# Altium integrated library Resistors-potenciometers.IntLib: 402 symbols (part 2 of 5)
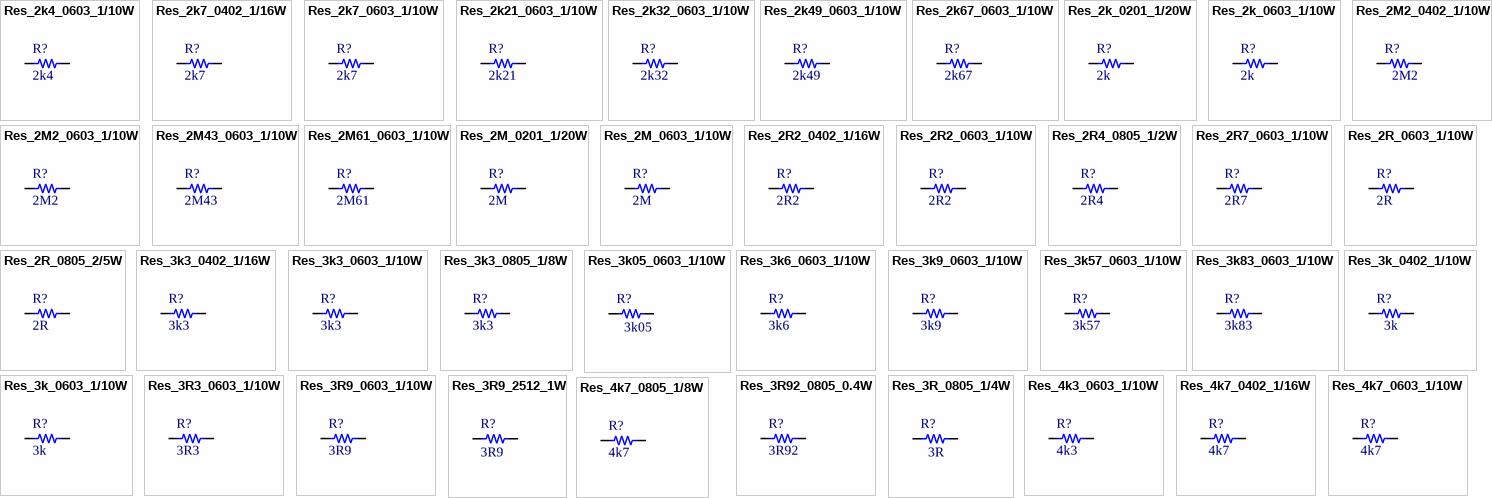
[diagram p11: symbols Res_2k4_0603_1/10W to Res_4k7_0805_1/8W]

## Res_2M2_0603_1/10W
designator R?, comment value 2M2  (hidden comment: 2M2 1/10W)
RES SMD 2.2M OHM 1% 1/10W 0603; Manufacturer Part Number: RC0603FR-072M2L; Manufacturer: Yageo; Reel Stock: N/A; Last modified by: J.Jaramillo; Last modified date: 20240310; ComponentLink1Description: Digi-Key; ComponentLink1URL: https://www.digikey.com/en/products/detail/yageo/RC0603FR-072M2L/5281189?s=N4IgTCBcDaIEoGEAMA2JBmAYnAtEg7GALJgAyIAugL5A; Supplier 1: Digi-Key; Supplier Part Number 1: YAG3329CT-ND
footprint 0603
pins: 1, 2

## Res_2M43_0603_1/10W
designator R?, comment value 2M43  (hidden comment: 2.43M 1/10W)
RES SMD 2.43M OHM 1% 1/10W 0603; Manufacturer Part Number: CRCW06032M43FKEA; Manufacturer: Vishay Dale; ComponentLink1URL: https://www.digikey.com/product-detail/en/vishay-dale/CRCW06032M43FKEA/541-2-43MHCT-ND/1180194; Reel Stock: N/A; Last modified by: J.Jaramillo; Last modified date: 20240310; ComponentLink1Description: Digi-key; Supplier 1: Digi-Key; Supplier Part Number 1: 541-2.43MHCT-ND
footprint 0603 (1608 Metric / 20190222 / N-A.Potosi)
pins: 1, 2

## Res_2M61_0603_1/10W
designator R?, comment value 2M61  (hidden comment: 2.61M 1/10W)
RES SMD 2.61M OHM 1% 1/10W 0603; Manufacturer Part Number: CRCW06032M61FKEA; Manufacturer: Vishay Dale; ComponentLink1URL: https://www.digikey.tw/products/en?keywords=541-2.61MHCT-ND; Reel Stock: N/A; Last modified by: J.Jaramillo; Last modified date: 20240310; ComponentLink1Description: Digi-key; Supplier 1: Digi-Key; Supplier Part Number 1: 541-2.61MHCT-ND
footprint 0603
pins: 1, 2

## Res_2M_0201_1/20W
designator R?, comment value 2M  (hidden comment: 2M 1/20W)
RES 2M OHM 5% 1/20W 0201; Manufacturer: Yageo; Manufacturer Part Number: RC0201JR-072ML; Supplier 1: Digi-Key; Supplier Part Number 1: YAG2885CT-ND; Reel Stock: N/A; Last modified by: J.Jaramillo; Last modified date: 20240310; ComponentLink1Description: Digi-Key; ComponentLink1URL: https://www.digikey.com/en/products/detail/yageo/RC0201JR-072ML/5280745?s=N4IgTCBcDaIJoEEDiYAcqCsBhAKgWgDkAREAXQF8g
footprint 0201 (20211214 / A-F.Romo)
pins: 1, 2

## Res_2M_0603_1/10W
designator R?, comment value 2M  (hidden comment: 2M 1/10W)
RES SMD 2M OHM 5% 1/10W 0603; Manufacturer: Yageo; Manufacturer Part Number: RC0603JR-072ML; Supplier 1: Digi-Key; Supplier Part Number 1: 311-2.0MGRCT-ND; Reel Stock: N/A; Last modified by: J.Jaramillo; Last modified date: 20240310; ComponentLink1Description: Digi-Key; ComponentLink1URL: https://www.digikey.com/product-detail/en/yageo/RC0603JR-072ML/311-2.0MGRCT-ND/729674
footprint 0603
pins: 1, 2

## Res_2R2_0402_1/16W
designator R?, comment value 2R2  (hidden comment: 2R2 1/16W)
RES 2.2 OHM 1% 1/16W 0402; Manufacturer Part Number: RMCF0402FT2R20; Manufacturer: Stackpole Electronics Inc; Reel Stock: N/A; Last modified by: J.Jaramillo; Last modified date: 20240310; Supplier 1: Digi-Key; Supplier Part Number 1: RMCF0402FT2R20CT-ND; ComponentLink1Description: Digi-Key; ComponentLink1URL: https://www.digikey.com/product-detail/en/stackpole-electronics-inc/RMCF0402FT2R20/RMCF0402FT2R20CT-ND/4376659
footprint 0402 (1005 Metric / 20190222 / N-A.Potosi)
footprint 0402_RF (1005 Metric / 20190222 / N-A.Potosi)
footprint 0402_RF2 (1005 Metric / 20190222 / N-A.Potosi)
pins: 1, 2

## Res_2R2_0603_1/10W
designator R?, comment value 2R2  (hidden comment: 2R2 1/10W)
RES SMD 2.2 OHM 1% 1/10W 0603; Manufacturer Part Number: RC0603FR-072R2L; Manufacturer: Yageo; ComponentLink1URL: https://www.digikey.com/en/products/detail/yageo/RC0603FR-072R2L/2827592?s=N4IgTCBcDaIEoGEAMA2JBmAYnAtEg7GHGADIgC6AvkA; Reel Stock: N/A; Last modified by: J.Jaramillo; Last modified date: 20240310; ComponentLink1Description: Digi-key; Supplier 1: Digi-Key; Supplier Part Number 1: 311-2.2HRCT-ND
footprint 0603
pins: 1, 2

## Res_2R4_0805_1/2W
designator R?, comment value 2R4  (hidden comment: 2R4 1/2W)
RES SMD 2.4 OHM 1% 1/2W 0805; Manufacturer: Panasonic Electronic Components; Manufacturer Part Number: ERJ-6DQF2R4V; Supplier 1: Digi-Key; Supplier Part Number 1: P19277CT-ND; Reel Stock: N/A; Last modified by: J.Jaramillo; Last modified date: 20240310; ComponentLink1Description: Digi-Key; ComponentLink1URL: https://www.digikey.com/product-detail/en/panasonic-electronic-components/ERJ-6DQF2R4V/P19277CT-ND/6004632
footprint 0805 (2012 metric/ 20190327 / V-A.Patino)
footprint 0805_M (2012 Metric / 20200129/ V-A.Patino)
pins: 1, 2

## Res_2R7_0603_1/10W
designator R?, comment value 2R7  (hidden comment: 2R7 1/10W)
RES 2.7 OHM 1% 1/10W 0603; Manufacturer Part Number: RMCF0603FT2R70; Manufacturer: Stackpole Electronics; ComponentLink1URL: https://www.digikey.com/en/products/detail/stackpole-electronics-inc/RMCF0603FT2R70/1713749?s=N4IgTCBcDaIEoFkDCAxADANjQZhQFTDgHY0QBdAXyA; Reel Stock: N/A; Last modified by: J.Jaramillo; Last modified date: 20240310; ComponentLink1Description: Digi-key; Supplier 1: Digi-Key; Supplier Part Number 1: RMCF0603FT2R70CT-ND
footprint 0603
pins: 1, 2

## Res_2R_0603_1/10W
designator R?, comment value 2R  (hidden comment: 2R 1/10W)
RES SMD 2 OHM 1% 1/10W 0603; Manufacturer Part Number: CRCW06032R00FKEA; Manufacturer: Vishay Dale; Reel Stock: N/A; Last modified by: J.Jaramillo; Last modified date: 20240310; Supplier Part Number 1: 541-2.00HHCT-ND; Supplier 1: Digi-Key; ComponentLink1Description: Digi-Key; ComponentLink1URL: https://www.digikey.com/product-detail/en/vishay-dale/CRCW06032R00FKEA/541-2.00HHCT-ND/1962029
footprint 0603 (1608 Metric / 20190222 / N-A.Potosi)
pins: 1, 2

## Res_2R_0805_2/5W
designator R?, comment value 2R  (hidden comment: 2R 2/5W)
RES SMD 2 OHM 1% 0.4W 0805; Manufacturer: Rohm Semiconductor; Manufacturer Part Number: ESR10EZPF2R00; Supplier 1: Digi-Key; Supplier Part Number 1: RHM2.00AECT-ND; Reel Stock: N/A; Last modified by: J.Jaramillo; Last modified date: 20240310; ComponentLink1Description: Digi-Key; ComponentLink1URL: https://www.digikey.com/product-detail/en/rohm-semiconductor/ESR10EZPF2R00/RHM2.00AECT-ND/1983841
footprint 0805 (2012 metric/ 20190327 / V-A.Patino)
footprint 0805_M (2012 Metric / 20200129/ V-A.Patino)
pins: 1, 2

## Res_3k3_0402_1/16W
designator R?, comment value 3k3  (hidden comment: 3k3 1/16W)
RES SMD 3.3K OHM 5% 1/16W 0402; Manufacturer: Yageo; Manufacturer Part Number: RC0402JR-073K3L; Supplier 1: Digi-Key; Supplier Part Number 1: 311-3.3KJRCT-ND; Reel Stock: N/A; Last modified by: J.Jaramillo; Last modified date: 20240310; ComponentLink1Description: Digi-Key; ComponentLink1URL: https://www.digikey.com/product-detail/en/yageo/RC0402JR-073K3L/311-3-3KJRCT-ND/729403
footprint 0402 (1005 Metric / 20190222 / N-A.Potosi)
footprint 0402_RF (1005 Metric / 20190222 / N-A.Potosi)
footprint 0402_RF2 (1005 Metric / 20190222 / N-A.Potosi)
pins: 1, 2

## Res_3k3_0603_1/10W
designator R?, comment value 3k3  (hidden comment: 3k3 1/10W)
RES SMD 3.3K OHM 1% 1/10W 0603; Manufacturer: Yageo; Manufacturer Part Number: RC0603FR-073K3L; Reel Stock: N/A; Last modified by: J.Jaramillo; Last modified date: 20240310; ComponentLink1Description: Digi-Key; ComponentLink1URL: https://www.digikey.com/en/products/detail/yageo/RC0603FR-073K3L/727126?s=N4IgTCBcDaIEoGEAMA2JBmAYnAtEg7OgNLoAyIAugL5A; Supplier 1: Digi-Key; Supplier Part Number 1: 311-3.30KHRCT-ND
footprint 0603
pins: 1, 2

## Res_3k3_0805_1/8W
designator R?, comment value 3k3  (hidden comment: 3k3 1/8W)
RES SMD 3.3K OHM 1% 1/8W 0805; Manufacturer: TE Connectivity Passive Product; Manufacturer Part Number: CRG0805F3K3; Supplier 1: Digi-Key; Supplier Part Number 1: A106062CT-ND; Reel Stock: N/A; Last modified by: J.Jaramillo; Last modified date: 20240310; ComponentLink1Description: Digi-Key; ComponentLink1URL: https://www.digikey.com/product-detail/en/te-connectivity-passive-product/CRG0805F3K3/A106062CT-ND/3477709
footprint 0805 (2012 metric/ 20190327 / V-A.Patino)
footprint 0805_M (2012 Metric / 20200129/ V-A.Patino)
pins: 1, 2

## Res_3k05_0603_1/10W
designator R?, comment value 3k05  (hidden comment: 3k05 1/10W)
RES 3.05K OHM 0.1% 1/10W 0603; Manufacturer: KOA Speer Electronics, Inc.; Manufacturer Part Number: RN73H1JTTD3051B25; Supplier 1: Digi-Key; Supplier Part Number 1: 2019-RN73H1JTTD3051B25CT-ND; Reel Stock: N/A; Last modified by: J.Jaramillo; Last modified date: 20240310; ComponentLink1Description: Digi-Key; ComponentLink1URL: https://www.digikey.com/en/products/detail/koa-speer-electronics-inc/RN73H1JTTD3051B25/10689705
footprint 0603 (1608 Metric / 20190222 / N-A.Potosi)
pins: 1, 2

## Res_3k6_0603_1/10W
designator R?, comment value 3k6  (hidden comment: 3k6 1/10W)
RES SMD 3.6K OHM 1% 1/10W 0603; Manufacturer Part Number: RC0603FR-073K6L; Manufacturer: Yageo; Reel Stock: N/A; Last modified by: J.Jaramillo; Last modified date: 20240310; ComponentLink1Description: Digi-Key; ComponentLink1URL: https://www.digikey.com/en/products/detail/yageo/RC0603FR-073K6L/727132?s=N4IgTCBcDaIEoGEAMA2JBmAYnAtEg7OgNIoAyIAugL5A; Supplier 1: Digi-Key; Supplier Part Number 1: 311-3.60KHRCT-ND
footprint 0603
pins: 1, 2

## Res_3k9_0603_1/10W
designator R?, comment value 3k9  (hidden comment: 3k9 1/10W)
RES 3.9K OHM 1% 1/10W 0603; Manufacturer: Stackpole Electronics; Manufacturer Part Number: RMCF0603FT3K90; Reel Stock: N/A; Last modified by: J.Jaramillo; Last modified date: 20240310; ComponentLink1Description: Digi-Key; ComponentLink1URL: https://www.digikey.com/en/products/detail/stackpole-electronics-inc/RMCF0603FT3K90/1713908?s=N4IgTCBcDaIEoFkDCAxADANjQZhQFWwGkBONEAXQF8g; Supplier 1: Digi-Key; Supplier Part Number 1: RMCF0603FT3K90CT-ND
footprint 0603
pins: 1, 2

## Res_3k57_0603_1/10W
designator R?, comment value 3k57  (hidden comment: 3k57 1/10W)
RES SMD 3.57K OHM 1% 1/10W 0603; Manufacturer: Yageo; Manufacturer Part Number: RC0603FR-073K57L; Supplier 1: Digi-Key; Supplier Part Number 1: 311-3.57KHRCT-ND; Reel Stock: N/A; Last modified by: J.Jaramillo; Last modified date: 20240310; ComponentLink1Description: Digi-Key; ComponentLink1URL: https://www.digikey.com/product-detail/en/yageo/RC0603FR-073K57L/311-3-57KHRCT-ND/730078
footprint 0603 (1608 Metric / 20190222 / N-A.Potosi)
pins: 1, 2

## Res_3k83_0603_1/10W
designator R?, comment value 3k83  (hidden comment: 3k83 1/10W)
RES SMD 3.83K OHM 1% 1/10W 0603; Manufacturer: YAGEO; Manufacturer Part Number: AC0603FR-073K83L; Supplier 1: Digi-Key; Supplier Part Number 1: 13-AC0603FR-073K83LCT-ND; Reel Stock: N/A; Last modified by: J.Jaramillo; Last modified date: 20240310; ComponentLink1Description: Digi-Key; ComponentLink1URL: https://www.digikey.com/en/products/detail/yageo/AC0603FR-073K83L/5896092
footprint 0603 (1608 Metric / 20190222 / N-A.Potosi)
pins: 1, 2

## Res_3k_0402_1/10W
designator R?, comment value 3k  (hidden comment: 3k 1/10W)
RES 3K OHM 1% 1/10W 0402 SMD; Manufacturer: Panasonic Electronic Components; Manufacturer Part Number: ERJ-U02F3001X; ComponentLink1URL: https://www.digikey.com/en/products/detail/panasonic-electronic-components/ERJ-U02F3001X/11640629; Reel Stock: N/A; Last modified by: J.Jaramillo; Last modified date: 20240310; ComponentLink1Description: Digi-key; Supplier 1: Digi-Key; Supplier Part Number 1: 10-ERJ-U02F3001XCT-ND
footprint 0402
footprint 0402_RF
footprint 0402_RF2 (1005 Metric / 20190222 / N-A.Potosi)
pins: 1, 2

## Res_3k_0603_1/10W
designator R?, comment value 3k  (hidden comment: 3k 1/10W)
RES SMD 3K OHM 1% 1/10W 0603; Manufacturer: Yageo; Manufacturer Part Number: RC0603FR-073KL; Supplier 1: Digi-Key; Supplier Part Number 1: 311-3.00KHRCT-ND; Reel Stock: N/A; Last modified by: J.Jaramillo; Last modified date: 20240310; ComponentLink1Description: Digi-Key; ComponentLink1URL: https://www.digikey.com/product-detail/en/yageo/RC0603FR-073KL/311-3-00KHRCT-ND/730066
footprint 0603 (1608 Metric / 20190222 / N-A.Potosi)
pins: 1, 2

## Res_3R3_0603_1/10W
designator R?, comment value 3R3  (hidden comment: 3R3 1/10W)
RES 2.7 OHM 1% 1/10W 0603; Manufacturer: Stackpole Electronics; Manufacturer Part Number: RMCF0603FT3R30; ComponentLink1URL: https://www.digikey.com/products/en?keywords=P0.0GCT-ND; Reel Stock: N/A; Last modified by: J.Jaramillo; Last modified date: 20240310; ComponentLink1Description: Digi-key; Supplier 1: Digi-Key; Supplier Part Number 1: RMCF0603FT3R30CT-ND
footprint 0603
pins: 1, 2

## Res_3R9_0603_1/10W
designator R?, comment value 3R9  (hidden comment: 3R9 1/10W)
RES 3.9 OHM 1% 1/10W 0603; Manufacturer: Stackpole Electronics; Manufacturer Part Number: RMCF0603FT3R90; ComponentLink1URL: https://www.digikey.com/en/products/detail/stackpole-electronics-inc/RMCF0603FT3R90/1713903?s=N4IgTCBcDaIEoFkDCAxADANjQZhQFWzgE40QBdAXyA; Reel Stock: N/A; Last modified by: J.Jaramillo; Last modified date: 20240310; ComponentLink1Description: Digi-key; Supplier 1: Digi-Key; Supplier Part Number 1: RMCF0603FT3R90CT-ND
footprint 0603
pins: 1, 2

## Res_3R9_2512_1W
designator R?, comment value 3R9  (hidden comment: 3R9 1W)
RES 3.9 OHM 1% 1W 2512; Manufacturer: Stackpole Electronics Inc; Manufacturer Part Number: RMCF2512FT3R90; Supplier 1: Digi-Key; Supplier Part Number 1: RMCF2512FT3R90CT-ND; Reel Stock: N/A; Last modified by: J.Jaramillo; Last modified date: 20240310; ComponentLink1Description: Digi-Key; ComponentLink1URL: https://www.digikey.es/en/products/detail/stackpole-electronics-inc/RMCF2512FT3R90/6265141?s=N4IgjCBcoExaBjKAzAhgGwM4FMA0IB7KAbXBjHIE4QBdfABwBcoQBlRgJwEsA7AcxABffAGZ4IJJDRY8hEuDAiIdEExbtu-IfjAA2cZOk58RSKTABWAOwAWAAxiVayG068BwkDDsAOCwZQMYzkzEBEAOkoAAgB5AAsAW0xaBmYXAFUeLkYY5ABZbFRMAFcObG0QAFo4aAkoTmLZU1J-GkF2oA
footprint 2512 (6432 metric/ 20190613/ J-P.Vargas.A)
pins: 1, 2

## Res_3R92_0805_0.4W
designator R?, comment value 3R92  (hidden comment: 3R92   0.4W)
RES SMD 3.92 OHM 1% 0.4W 0805; Manufacturer: Rohm Semiconductor; Manufacturer Part Number: ESR10EZPF3R92; Supplier 1: Digi-Key; Supplier Part Number 1: RHM3.92AECT-ND; Reel Stock: N/A; Last modified by: J.Jaramillo; Last modified date: 20240310; ComponentLink1Description: Digi-Key; ComponentLink1URL: https://www.digikey.com/product-detail/en/rohm-semiconductor/ESR10EZPF3R92/RHM3.92AECT-ND/1983853
footprint 0805 (2012 metric/ 20190327 / V-A.Patino)
footprint 0805_M (2012 Metric / 20200129/ V-A.Patino)
pins: 1, 2

## Res_3R_0805_1/4W
designator R?, comment value 3R  (hidden comment: 3R 1/4W)
RES 3 OHM 1% 1/4W 0805; Manufacturer: KOA Speer Electronics, Inc.; Manufacturer Part Number: SG73P2ATTD3R00F; Supplier 1: Poshton; Supplier Part Number 1: KOA-SG73P2ATTD3R00F; Reel Stock: N/A; Last modified by: J.Jaramillo; Last modified date: 20240310
footprint 0805_0.6mm (2012 metric/20230306/ J-A.Sepulveda)
pins: 1, 2

## Res_4k3_0603_1/10W
designator R?, comment value 4k3  (hidden comment: 4k3 1/10W)
RES SMD 4.3K OHM 1% 1/10W 0603; Manufacturer: Yageo; Manufacturer Part Number: RC0603FR-074K3L; Supplier 1: Digi-Key; Supplier Part Number 1: 311-4.30KHRCT-ND; Reel Stock: N/A; Last modified by: J.Jaramillo; Last modified date: 20240310; ComponentLink1Description: Digi-; ComponentLink1URL: https://www.digikey.com/product-detail/en/yageo/RC0603FR-074K3L/311-4-30KHRCT-ND/730153
footprint 0603 (1608 Metric / 20190222 / N-A.Potosi)
pins: 1, 2

## Res_4k7_0402_1/16W
designator R?, comment value 4k7  (hidden comment: 4k7 1/16W)
RES SMD 4.7K OHM 5% 1/16W 0402; Manufacturer: Yageo; Manufacturer Part Number: RC0402JR-074K7L; Supplier 1: Digi-Key; Supplier Part Number 1: 311-4.7KJRCT-ND; Reel Stock: N/A; Last modified by: J.Jaramillo; Last modified date: 20240310; ComponentLink1Description: Digi-Key; ComponentLink1URL: https://www.digikey.com/product-detail/en/yageo/RC0402JR-074K7L/311-4-7KJRCT-ND/729424
footprint 0402 (1005 Metric / 20190222 / N-A.Potosi)
footprint 0402_RF (1005 Metric / 20190222 / N-A.Potosi)
footprint 0402_RF2 (1005 Metric / 20190222 / N-A.Potosi)
pins: 1, 2

## Res_4k7_0603_1/10W
designator R?, comment value 4k7  (hidden comment: 4k7 1/10W)
RES SMD 4.7K OHM 1% 1/10W 0603; Manufacturer: Yageo; Manufacturer Part Number: RC0603FR-074K7L; Supplier 1: Digi-Key; Supplier Part Number 1: 311-4.70KHRCT-ND; Reel Stock: N/A; Last modified by: J.Jaramillo; Last modified date: 20240310; ComponentLink1Description: Digi-Key; ComponentLink1URL: https://www.digikey.com/product-detail/en/yageo/RC0603FR-074K7L/311-4-70KHRCT-ND/730159
footprint 0603 (1608 Metric / 20190222 / N-A.Potosi)
pins: 1, 2

## Res_4k7_0805_1/8W
designator R?, comment value 4k7  (hidden comment: 4k7 1/8W)
RES SMD 4.7K OHM 1% 1/8W 0805; Manufacturer Part Number: RC0805FR-074K7L; Manufacturer: Yageo; Reel Stock: N/A; Last modified by: J.Jaramillo; Last modified date: 20240310; ComponentLink1Description: Digi-Key; ComponentLink1URL: https://www.digikey.com/product-detail/en/yageo/RC0805FR-074K7L/311-4.70KCRCT-ND/730876; Supplier 1: Digi-Key; Supplier Part Number 1: 311-4.70KCRCT-ND
footprint 0805 (2012 Metric / 20190221 / C-A.Serna.A)
footprint 0805_M (2012 Metric / 20200129/ V-A.Patino)
pins: 1, 2

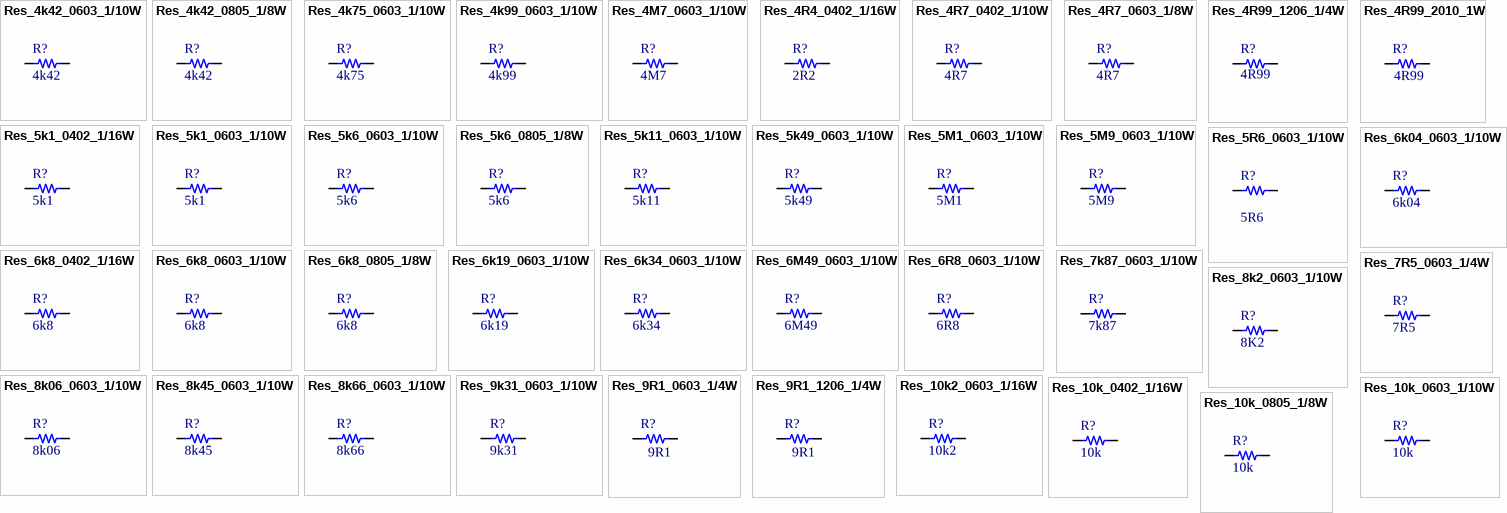
[diagram p3: symbols Res_4k42_0603_1/10W to Res_10k_0805_1/8W]

## Res_4k42_0603_1/10W
designator R?, comment value 4k42  (hidden comment: 4.42k 1/10W)
RES SMD 4.42k OHM 1% 1/10W 0603; Manufacturer: Panasonic Electronic Components; Manufacturer Part Number: ERJ-3EKF4421V; Supplier 1: Digi-Key; Supplier Part Number 1: P4.42KHCT-ND; Reel Stock: N/A; Last modified by: J.Jaramillo; Last modified date: 20240310; ComponentLink1Description: Digi-Key; ComponentLink1URL: https://www.digikey.com/product-detail/en/panasonic-electronic-components/ERJ-3EKF4421V/P4.42KHCT-ND/198368
footprint 0603
pins: 1, 2

## Res_4k42_0805_1/8W
designator R?, comment value 4k42  (hidden comment: 4.42k 1/8W)
RES SMD 4.42k OHM 1% 1/8W 0805; Manufacturer: Yageo; Manufacturer Part Number: RC0805FR-074K42L; Supplier 1: Digi-Key; Supplier Part Number 1: 311-4.42KCRCT-ND; Reel Stock: N/A; Last modified by: J.Jaramillo; Last modified date: 20240310; ComponentLink1Description: Digi-key; ComponentLink1URL: https://www.digikey.com/products/en?keywords=311-4.42KCRCT-ND
footprint 0805 (2012 metric/ 20190327 / V-A.Patino)
footprint 0805_M (2012 Metric / 20200129/ V-A.Patino)
pins: 1, 2

## Res_4k75_0603_1/10W
designator R?, comment value 4k75  (hidden comment: 4k75 1/10W)
RES SMD 4.75K OHM 1% 1/10W 0603; Manufacturer: Yageo; Manufacturer Part Number: RC0603FR-074K75L; Supplier 1: Digi-Key; Supplier Part Number 1: 311-4.75KHRCT-ND; Reel Stock: N/A; Last modified by: J.Jaramillo; Last modified date: 20240310; ComponentLink1Description: Digi-Key; ComponentLink1URL: https://www.digikey.com/product-detail/en/yageo/RC0603FR-074K75L/311-4-75KHRCT-ND/730162
footprint 0603 (1608 Metric / 20190222 / N-A.Potosi)
pins: 1, 2

## Res_4k99_0603_1/10W
designator R?, comment value 4k99  (hidden comment: 4k99 1/10W)
RES SMD 4.99K OHM 1% 1/10W 0603; Manufacturer: Yageo; Manufacturer Part Number: RC0603FR-074K99L; Reel Stock: N/A; Last modified by: J.Jaramillo; Last modified date: 20240310; ComponentLink1Description: Digi-Key; ComponentLink1URL: https://www.digikey.com/en/products/detail/yageo/RC0603FR-074K99L/727219?s=N4IgTCBcDaIEoGEAMA2JBmAYnAtEg7ACwDSAnKQDIgC6AvkA; Supplier 1: Digi-Key; Supplier Part Number 1: 311-4.99KHRCT-ND
footprint 0603
pins: 1, 2

## Res_4M7_0603_1/10W
designator R?, comment value 4M7  (hidden comment: 4M7 1/10W)
RES SMD 4.7M OHM 1% 1/10W 0603; Manufacturer: Yageo; Manufacturer Part Number: RC0603FR-074M7L; Reel Stock: N/A; Last modified by: J.Jaramillo; Last modified date: 20240310; ComponentLink1Description: Digi-Key; ComponentLink1URL: https://www.digikey.com/en/products/detail/yageo/RC0603FR-074M7L/727213?s=N4IgTCBcDaIEoGEAMA2JBmAYnAtEg7ACwCy%2BAMiALoC%2BQA; Supplier 1: Digi-Key; Supplier Part Number 1: 311-4.70MHRCT-ND
footprint 0603
pins: 1, 2

## Res_4R4_0402_1/16W
designator R?, comment value 2R2  (hidden comment: 4R4 1/16W)
RES 2.2 OHM 1% 1/16W 0402; Manufacturer Part Number: RMCF0402FT2R20; Manufacturer: Stackpole Electronics Inc; Reel Stock: N/A; Last modified by: J.Jaramillo; Last modified date: 20240310; Supplier 1: Digi-Key; Supplier Part Number 1: RMCF0402FT2R20CT-ND; ComponentLink1Description: Digi-Key; ComponentLink1URL: https://www.digikey.com/product-detail/en/stackpole-electronics-inc/RMCF0402FT2R20/RMCF0402FT2R20CT-ND/4376659
footprint 0402 (1005 Metric / 20190222 / N-A.Potosi)
footprint 0402_RF (1005 Metric / 20190222 / N-A.Potosi)
footprint 0402_RF2 (1005 Metric / 20190222 / N-A.Potosi)
pins: 1, 2

## Res_4R7_0402_1/10W
designator R?, comment value 4R7  (hidden comment: 4R7 1/10W)
RES 4.7 OHM 5% 1/10W 0402; Manufacturer: KOA Speer Electronics, Inc.; Manufacturer Part Number: RK73B1ETTP4R7J; Supplier 1: Digi-key; Supplier Part Number 1: 2019-RK73B1ETTP4R7JCT-ND; Reel Stock: N/A; Last modified by: J.Jaramillo; Last modified date: 20240310; ComponentLink1Description: Digi-Key; ComponentLink1URL: https://www.digikey.com/product-detail/en/koa-speer-electronics-inc/RK73B1ETTP4R7J/2019-RK73B1ETTP4R7JCT-ND/9846050
footprint 0402
footprint 0402_RF
footprint 0402_RF2 (1005 Metric / 20190222 / N-A.Potosi)
pins: 1, 2

## Res_4R7_0603_1/8W
designator R?, comment value 4R7  (hidden comment: 4R7 1/8W)
RES 4.7 OHM 1% 1/8W 0603; Manufacturer Part Number: RNCP0603FTD4R70; Manufacturer: Stackpole Electronics; ComponentLink1URL: https://www.digikey.com/en/products/detail/stackpole-electronics-inc/RNCP0603FTD4R70/2240073?s=N4IgTCBcDaIEoDkDCAFADANjQZgGIBUARAFjgHY0QBdAXyA; Reel Stock: N/A; Last modified by: J.Jaramillo; Last modified date: 20240310; ComponentLink1Description: Digi-key; Supplier 1: Digi-Key; Supplier Part Number 1: RNCP0603FTD4R70CT-ND
footprint 0603
pins: 1, 2

## Res_4R99_1206_1/4W
designator R?, comment value 4R99  (hidden comment: 4R99 1/4W)
RES 4.99 OHM 1% 1/4W 1206; Manufacturer: Stackpole Electronics Inc; Manufacturer Part Number: RMCF1206FT4R99; Supplier 1: Digi-Key; Supplier Part Number 1: RMCF1206FT4R99CT-ND; Reel Stock: N/A; Last modified by: J.Jaramillo; Last modified date: 20240310; ComponentLink1Description: Digi-Key; ComponentLink1URL: https://www.digikey.com/en/products/detail/stackpole-electronics-inc/RMCF1206FT4R99/1759232
footprint 1206 (3216 metric/ 20190327/ V-A.Patino)
pins: 1, 2

## Res_4R99_2010_1W
designator R?, comment value 4R99  (hidden comment: 4R99 1W)
RES SMD 4.99 OHM 1% 1W 2010; Manufacturer: Bourns Inc.; Manufacturer Part Number: CRS2010-FW-4R99ELF; Supplier 1: Digi-Key; Supplier Part Number 1: CRS2010-FW-4R99ELFCT-ND; Reel Stock: N/A; Last modified by: J.Jaramillo; Last modified date: 20240310; ComponentLink1Description: Digi-Key; ComponentLink1URL: https://www.digikey.com/en/products/detail/bourns-inc/CRS2010-FW-4R99ELF/5778656
footprint 2010 (E.Naranjo/20220217)
pins: 1, 2

## Res_5k1_0402_1/16W
designator R?, comment value 5k1  (hidden comment: 5k1 1/16W)
RES SMD 5.1K OHM 5% 1/16W 0402; Manufacturer: Yageo; Manufacturer Part Number: RC0402JR-075K1L; Supplier 1: Digikey; Supplier Part Number 1: 311-5.1KJRCT-ND; Reel Stock: N/A; Last modified by: J.Jaramillo; Last modified date: 20240310; ComponentLink1Description: Digikey; ComponentLink1URL: https://www.digikey.com/en/products/detail/yageo/RC0402JR-075K1L/726487
footprint 0402 (1005 Metric / 20190222 / N-A.Potosi)
footprint 0402_RF (1005 Metric / 20190222 / N-A.Potosi)
footprint 0402_RF2 (1005 Metric / 20190222 / N-A.Potosi)
pins: 1, 2

## Res_5k1_0603_1/10W
designator R?, comment value 5k1  (hidden comment: 5K1 1/10W)
RES SMD 5.1K OHM 1% 1/10W 0603; Manufacturer: Panasonic Electronic Components; Manufacturer Part Number: ERJ3EKF5101V; Reel Stock: N/A; Last modified by: J.Jaramillo; Last modified date: 20240310; ComponentLink1Description: Digi-key; ComponentLink1URL: https://www.digikey.com/products/en?keywords=P5.10KHCT-ND; Supplier 1: Digi-Key; Supplier Part Number 1: P5.10KHCT-ND
footprint 0603 (1608 Metric / 20190222 / N-A.Potosi)
pins: 1, 2

## Res_5k6_0603_1/10W
designator R?, comment value 5k6  (hidden comment: 5k6 1/10W)
RES SMD 5.6K OHM 1% 1/10W 0603; Manufacturer: Yageo; Manufacturer Part Number: RC0603FR-075K6L; Reel Stock: N/A; Last modified by: J.Jaramillo; Last modified date: 20240310; ComponentLink1Description: Digi-Key; ComponentLink1URL: https://www.digikey.com/en/products/detail/yageo/RC0603FR-075K6L/727275?s=N4IgTCBcDaIEoGEAMA2JBmAYnAtEg7AKwDSKAMiALoC%2BQA; Supplier 1: Digi-Key; Supplier Part Number 1: 311-5.60KHRCT-ND
footprint 0603
pins: 1, 2

## Res_5k6_0805_1/8W
designator R?, comment value 5k6  (hidden comment: 5k6 1/8W)
RES 5.6K OHM 1% 1/8W 0805; Manufacturer: Stackpole Electronics Inc; Manufacturer Part Number: RMCF0805FT5K60; Supplier 1: Digi-Key; Supplier Part Number 1: RMCF0805FT5K60CT-ND; Reel Stock: N/A; Last modified by: J.Jaramillo; Last modified date: 20240310; ComponentLink1Description: Digi-Key; ComponentLink1URL: https://www.digikey.com/product-detail/en/stackpole-electronics-inc/RMCF0805FT5K60/RMCF0805FT5K60CT-ND/1942418
footprint 0805 (2012 metric/ 20190327 / V-A.Patino)
footprint 0805_M (2012 Metric / 20200129/ V-A.Patino)
pins: 1, 2

## Res_5k11_0603_1/10W
designator R?, comment value 5k11  (hidden comment: 5K11 1/10W)
RES SMD 5.11K OHM 1% 1/10W 0603; Manufacturer: Panasonic Electronic Components; Manufacturer Part Number: ERJ-3EKF5111V; Reel Stock: N/A; Last modified by: J.Jaramillo; Last modified date: 20240310; Supplier 1: Digi-Key; Supplier Part Number 1: P5.11KHCT-ND; ComponentLink1Description: Digi-Key; ComponentLink1URL: https://www.digikey.com/product-detail/en/panasonic-electronic-components/ERJ-3EKF5111V/P5.11KHCT-ND/198416
footprint 0603 (1608 Metric / 20190222 / N-A.Potosi)
pins: 1, 2

## Res_5k49_0603_1/10W
designator R?, comment value 5k49  (hidden comment: 5k49 1/10W)
RES 5.49K OHM 1% 1/10W 0603; Manufacturer: Stackpole Electronics Inc; Manufacturer Part Number: RMCF0603FT5K49; Supplier 1: Digi-Key; Supplier Part Number 1: RMCF0603FT5K49CT-ND; Reel Stock: N/A; Last modified by: J.Jaramillo; Last modified date: 20240310; ComponentLink1Description: Digi-Key; ComponentLink1URL: https://www.digikey.com/en/products/detail/stackpole-electronics-inc/RMCF0603FT5K49/1761256
footprint 0603 (1608 Metric / 20190222 / N-A.Potosi)
pins: 1, 2

## Res_5M1_0603_1/10W
designator R?, comment value 5M1  (hidden comment: 5.1M 1/10W)
RES SMD 5.1M OHM 1% 1/10W 0603; Manufacturer: Rohm Semiconductor; Manufacturer Part Number: KTR03EZPF5104; ComponentLink1URL: https://www.digikey.com/en/products/detail/rohm-semiconductor/KTR03EZPF5104/3880988?s=N4IgTCBcDaIEoAkCyBWAdARiQQQJoGEAVAWgDkAREAXQF8g; Reel Stock: N/A; Last modified by: J.Jaramillo; Last modified date: 20240310; ComponentLink1Description: Digi-key; Supplier 1: Digi-Key; Supplier Part Number 1: RHM5.1MAYCT-ND
footprint 0603
pins: 1, 2

## Res_5M9_0603_1/10W
designator R?, comment value 5M9  (hidden comment: 5M9 1/10W)
RES SMD 5.9M OHM 1% 1/10W 0603; Manufacturer: Vishay Dale; Manufacturer Part Number: CRCW06035M90FKEA; Supplier 1: Digi-Key; Supplier Part Number 1: 541-5.90MHCT-ND; Reel Stock: N/A; Last modified by: J.Jaramillo; Last modified date: 20240310; ComponentLink1Description: Digi-Key; ComponentLink1URL: https://www.digikey.com/product-detail/en/vishay-dale/CRCW06035M90FKEA/541-5.90MHCT-ND/1180240
footprint 0603
pins: 1, 2

## Res_5R6_0603_1/10W
designator R?, comment value 5R6  (hidden comment: 5R6 1/10W)
RES SMD 5.6 OHM 1% 1/10W 0603; Manufacturer: Panasonic Electronic Components; Manufacturer Part Number: ERJ-3RQF5R6V; Supplier 1: Digi-Key; Supplier Part Number 1: P5.6AJCT-ND; Reel Stock: N/A; Last modified by: J.Jaramillo; Last modified date: 20240310; ComponentLink1Description: Digi-Key; ComponentLink1URL: https://www.digikey.com/product-detail/en/panasonic-electronic-components/ERJ-3RQF5R6V/P5-6AJCT-ND/308119
footprint 0603 (1608 Metric / 20190222 / N-A.Potosi)
pins: 1, 2

## Res_6k04_0603_1/10W
designator R?, comment value 6k04  (hidden comment: 6k04 1/10W)
RES SMD 6.04K OHM 1% 1/10W 0603; Manufacturer Part Number: AC0603FR-076K04L; Manufacturer: Yageo; Reel Stock: N/A; Last modified by: J.Jaramillo; Last modified date: 20240310; ComponentLink1Description: Digi-Key; ComponentLink1URL: https://www.digikey.com/en/products/detail/yageo/AC0603FR-076K04L/5896259; Supplier 1: Digi-Key; Supplier Part Number 1: 13-AC0603FR-076K04LCT-ND
footprint 0603
pins: 1, 2

## Res_6k8_0402_1/16W
designator R?, comment value 6k8  (hidden comment: 6k8 1/16W)
RES SMD 6.8K OHM 1% 1/16W 0402; Manufacturer: Vishay Dale; Manufacturer Part Number: CRCW04026K80FKED; Supplier 1: Digi-Key; Supplier Part Number 1: 541-6.80KLCT-ND; Reel Stock: N/A; Last modified by: J.Jaramillo; Last modified date: 20240310; ComponentLink1Description: Digi-Key; ComponentLink1URL: https://www.digikey.com/en/products/detail/vishay-dale/CRCW04026K80FKED/1178102
footprint 0402 (1005 Metric / 20190222 / N-A.Potosi)
footprint 0402_RF (1005 Metric / 20190222 / N-A.Potosi)
footprint 0402_RF2 (1005 Metric / 20190222 / N-A.Potosi)
pins: 1, 2

## Res_6k8_0603_1/10W
designator R?, comment value 6k8  (hidden comment: 6k8 1/10W)
RES SMD 6.8K OHM 1% 1/10W 0603; Manufacturer Part Number: RC0603FR-076K8L; Manufacturer: Yageo; Reel Stock: N/A; Last modified by: J.Jaramillo; Last modified date: 20240310; ComponentLink1Description: Digi-Key; ComponentLink1URL: https://www.digikey.com/en/products/detail/yageo/RC0603FR-076K8L/727323?s=N4IgTCBcDaIEoGEAMA2JBmAYnAtEg7CgNIAcAMiALoC%2BQA; Supplier 1: Digi-Key; Supplier Part Number 1: 311-6.80KHRCT-ND
footprint 0603
pins: 1, 2

## Res_6k8_0805_1/8W
designator R?, comment value 6k8  (hidden comment: 6k8 1/8W)
RES SMD 6.8K OHM 1% 1/8W 0805; Manufacturer: TE Connectivity Passive Product; Manufacturer Part Number: CRG0805F6K8; Supplier 1: Digi-Key; Supplier Part Number 1: A126384CT-ND; Reel Stock: N/A; Last modified by: J.Jaramillo; Last modified date: 20240310; ComponentLink1Description: Digi-Key; ComponentLink1URL: https://www.digikey.com/product-detail/en/te-connectivity-passive-product/CRG0805F6K8/A126384CT-ND/7603439
footprint 0805 (2012 metric/ 20190327 / V-A.Patino)
footprint 0805_M (2012 Metric / 20200129/ V-A.Patino)
pins: 1, 2

## Res_6k19_0603_1/10W
designator R?, comment value 6k19  (hidden comment: 6k19 1/10W)
RES 6.19K OHM 1% 1/10W 0603; Manufacturer: YAGEO; Manufacturer Part Number: RC0603FR-076K19L; Supplier 1: Digi-Key; Supplier Part Number 1: 311-6.19KHRCT-ND; Reel Stock: N/A; Last modified by: J.Jaramillo; Last modified date: 20240310; ComponentLink1Description: Digi-Key; ComponentLink1URL: https://www.digikey.com/en/products/detail/yageo/RC0603FR-076K19L/727318
footprint 0603 (1608 Metric / 20190222 / N-A.Potosi)
pins: 1, 2

## Res_6k34_0603_1/10W
designator R?, comment value 6k34  (hidden comment: 6k34 1/10W)
RES SMD 6.34K OHM 1% 1/10W 0603; Manufacturer: Yageo; Manufacturer Part Number: RC0603FR-076K34L; Supplier 1: Digi-Key; Supplier Part Number 1: 311-6.34KHRCT-ND; Reel Stock: N/A; Last modified by: J.Jaramillo; Last modified date: 20240310; ComponentLink1Description: Digi-Key; ComponentLink1URL: https://www.digikey.com/product-detail/en/yageo/RC0603FR-076K34L/311-6.34KHRCT-ND/730267
footprint 0603 (1608 Metric / 20190222 / N-A.Potosi)
pins: 1, 2

## Res_6M49_0603_1/10W
designator R?, comment value 6M49  (hidden comment: 6M49 1/10W)
RES SMD 6.49M OHM 1% 1/10W 0603; Manufacturer: Vishay Dale; Manufacturer Part Number: CRCW06036M49FKEA; Supplier 1: Digi-Key; Supplier Part Number 1: 541-6.49MHCT-ND; Reel Stock: N/A; Last modified by: J.Jaramillo; Last modified date: 20240310; ComponentLink1Description: Digi-Key; ComponentLink1URL: https://www.digikey.com/product-detail/en/vishay-dale/CRCW06036M49FKEA/541-6-49MHCT-ND/1180245
footprint 0603 (1608 Metric / 20190222 / N-A.Potosi)
pins: 1, 2

## Res_6R8_0603_1/10W
designator R?, comment value 6R8  (hidden comment: 6R8 1/10W)
RES 6.8 OHM 1% 1/10W 0603; Manufacturer: Stackpole Electronics; Manufacturer Part Number: RMCF0603FT6R80; ComponentLink1URL: https://www.digikey.com/en/products/detail/stackpole-electronics-inc/RMCF0603FT6R80/1714154?s=N4IgTCBcDaIEoFkDCAxADANjQZhQFQzgA40QBdAXyA; Reel Stock: N/A; Last modified by: J.Jaramillo; Last modified date: 20240310; ComponentLink1Description: Digi-key; Supplier 1: Digi-Key; Supplier Part Number 1: RMCF0603FT6R80CT-ND
footprint 0603
pins: 1, 2

## Res_7k87_0603_1/10W
designator R?, comment value 7k87  (hidden comment: 7k87 1/10W)
RES SMD 7.87K OHM 1% 1/10W 0603; Manufacturer Part Number: RC0603FR-077K87L; Manufacturer: Yageo; Reel Stock: N/A; Last modified by: J.Jaramillo; Last modified date: 20240310; ComponentLink1Description: Digi-Key; ComponentLink1URL: https://www.digikey.com/en/products/detail/yageo/RC0603FR-077K87L/727368?s=N4IgTCBcDaIEoGEAMA2JBmAYnAtEg7PgNIAc%2BAMiALoC%2BQA; Supplier 1: Digi-Key; Supplier Part Number 1: 311-7.87KHRCT-ND
footprint 0603
pins: 1, 2

## Res_7R5_0603_1/4W
designator R?, comment value 7R5  (hidden comment: 7.5R 1/4W)
RES SMD 7.5 OHM 5% 1/4W 0603; Manufacturer: Panasonic Electronic Components; Manufacturer Part Number: ERJ-3BQJ7R5V; Supplier 1: Digi-Key; Supplier Part Number 1: P17428CT-ND; Reel Stock: N/A; Last modified by: J.Jaramillo; Last modified date: 20240310; ComponentLink1Description: Digi-Key; ComponentLink1URL: https://www.digikey.com/en/products/detail/panasonic-electronic-components/ERJ-3BQJ7R5V/5647461?s=N4IgTCBcDaIKICUBSBaAzAIQIpIOwIFYA1EAXQF8g
footprint 0603 (1608 Metric / 20190222 / N-A.Potosi)
pins: 1, 2

## Res_8k2_0603_1/10W
designator R?, comment value 8K2  (hidden comment: 1/10W)
RES SMD 8.2K OHM 1% 1/10W 0603; Manufacturer: Yageo; Manufacturer Part Number: AC0603FR-078K2L; Reel Stock: N/A; Last modified by: J.Jaramillo; Last modified date: 20240310; ComponentLink1Description: Digi-Key; ComponentLink1URL: https://www.digikey.com/en/products/detail/yageo/AC0603FR-078K2L/5896322; Supplier 1: Digi-Key; Supplier Part Number 1: YAG3634CT-ND
footprint 0603
pins: 1, 2

## Res_8k06_0603_1/10W
designator R?, comment value 8k06  (hidden comment: 8k06 1/10W)
RES 8.06K OHM 1% 1/10W 0603; Manufacturer: Stackpole Electronics Inc; Manufacturer Part Number: RMCF0603FT8K06; Supplier 1: Digi-Key; Supplier Part Number 1: RMCF0603FT8K06CT-ND; Reel Stock: N/A; Last modified by: J.Jaramillo; Last modified date: 20240310; ComponentLink1Description: Digi-Key; ComponentLink1URL: https://www.digikey.com/product-detail/en/stackpole-electronics-inc/RMCF0603FT8K06/RMCF0603FT8K06CT-ND/2418150
footprint 0603 (1608 Metric / 20190222 / N-A.Potosi)
pins: 1, 2

## Res_8k45_0603_1/10W
designator R?, comment value 8k45  (hidden comment: 8k45  1/10W)
RES SMD 8.45K OHM 1% 1/10W 0603; Manufacturer: Yageo; Manufacturer Part Number: RC0603FR-078K45L; Supplier 1: Digi-Key; Supplier Part Number 1: 311-8.45KHRCT-ND; Reel Stock: N/A; Last modified by: J.Jaramillo; Last modified date: 20240310; ComponentLink1Description: Digi-Key; ComponentLink1URL: https://www.digikey.com/en/products/detail/yageo/RC0603FR-078K45L/727392
footprint 0603 (1608 Metric / 20190222 / N-A.Potosi)
pins: 1, 2

## Res_8k66_0603_1/10W
designator R?, comment value 8k66  (hidden comment: 8k66 1/10W)
RES 8.66K OHM 1% 1/10W 0603; Manufacturer: Stackpole Electronics Inc; Manufacturer Part Number: RMCF0603FT8K66; Supplier 1: Digi-Key; Supplier Part Number 1: RMCF0603FT8K66CT-ND; Reel Stock: N/A; Last modified by: J.Jaramillo; Last modified date: 20240310; ComponentLink1Description: Digi-Key; ComponentLink1URL: https://www.digikey.com/product-detail/en/stackpole-electronics-inc/RMCF0603FT8K66/RMCF0603FT8K66CT-ND/2418152
footprint 0603 (1608 Metric / 20190222 / N-A.Potosi)
pins: 1, 2

## Res_9k31_0603_1/10W
designator R?, comment value 9k31  (hidden comment: 9k31 1/10W)
RES SMD 9.31K OHM 1% 1/10W 0603; Manufacturer Part Number: RC0603FR-079K31L; Manufacturer: Yageo; Reel Stock: N/A; Last modified by: J.Jaramillo; Last modified date: 20240310; ComponentLink1Description: Digi-Key; ComponentLink1URL: https://www.digikey.com/en/products/detail/yageo/RC0603FR-079K31L/727420?s=N4IgTCBcDaIEoGEAMA2JBmAYnAtEg7AJwDS6AjADIgC6AvkA; Supplier 1: Digi-Key; Supplier Part Number 1: 311-9.31KHRCT-ND
footprint 0603
pins: 1, 2

## Res_9R1_0603_1/4W
designator R?, comment value 9R1  (hidden comment: 9R1 1/4W)
RES SMD 9.1 OHM 5% 1/4W 0603; Manufacturer: Rohm Semiconductor; Manufacturer Part Number: ESR03EZPJ9R1; Supplier 1: Digi-Key; Supplier Part Number 1: RHM9.1DCT-ND; Reel Stock: N/A; Last modified by: J.Jaramillo; Last modified date: 20240310; ComponentLink1Description: Digi-Key; ComponentLink1URL: https://www.digikey.com/en/products/detail/rohm-semiconductor/ESR03EZPJ9R1/4051304
footprint 0603_1.4mm (1608 Metric/20230206/J-A.Sepulveda)
footprint 0603_1.2mm (1608 Metric/20230303/J-A.Sepulveda)
footprint 0603_1.0mm (1608 Metric/20230303/J-A.Sepulveda)
footprint 0603_0.8mm (1608 Metric/20230303/J-A.Sepulveda)
footprint 0603_0.6mm (1608 Metric/20230303/J-A.Sepulveda)
footprint 0603_0.4mm (1608 Metric/20230303/J-A.Sepulveda)
footprint 0603 (1608 Metric / 20190222 / N-A.Potosi)
pins: 1, 2

## Res_9R1_1206_1/4W
designator R?, comment value 9R1  (hidden comment: 9R1 1/4W)
RES 9.1 OHM 5% 1/4W 1206; Manufacturer: KOA Speer Electronics, Inc.; Manufacturer Part Number: RK73B2BTTD9R1J; Supplier 1: Digi-Key; Supplier Part Number 1: 2019-RK73B2BTTD9R1JCT-ND; Reel Stock: N/A; Last modified by: J.Jaramillo; Last modified date: 20240310; ComponentLink1Description: Digi-Key; ComponentLink1URL: https://www.digikey.com/en/products/detail/koa-speer-electronics-inc/RK73B2BTTD9R1J/10248795
footprint 1206 (3216 metric/ 20190327/ V-A.Patino)
footprint 1206_0.4mm (3216 metric/20230303/J-A.Sepulveda)
footprint 1206_0.6mm (3216 metric/20230303/J-A.Sepulveda)
footprint 1206_0.8mm (3216 metric/20230303/J-A.Sepulveda)
footprint 1206_1.0mm (3216 metric/20230303/J-A.Sepulveda)
footprint 1206_1.2mm (3216 metric/20230303/J-A.Sepulveda)
footprint 1206_1.4mm (3216 metric/20230303/J-A.Sepulveda)
footprint 1210_1.6mm (3225 Metric/20230206/J-A.Sepulveda)
footprint 1206_1.8mm (3216 Metric/20230206/J-A.Sepulveda)
footprint 1206_2.0mm (3216 Metric/20230206/J-A.Sepulveda)
footprint 1206_2.2mm (3216 Metric/20230206/J-A.Sepulveda)
footprint 1210_2.4mm (3225 Metric/20230206/J-A.Sepulveda)
footprint 1210_2.6mm (3225 Metric/20230206/J-A.Sepulveda)
footprint 1210_2.8mm (3225 Metric/20230206/J-A.Sepulveda)
footprint 1210_3.0mm (3225 Metric/20230206/J-A.Sepulveda)
footprint 1210_3.2mm (3225 Metric/20230206/J-A.Sepulveda)
pins: 1, 2

## Res_10k2_0603_1/16W
designator R?, comment value 10k2  (hidden comment: 10k2 1/16W)
RES 10.2K OHM 1% 1/10W 0603; Manufacturer: Stackpole Electronics Inc; Manufacturer Part Number: RMCF0603FT10K2; Supplier 1: Digi-Key; Supplier Part Number 1: RMCF0603FT10K2CT-ND; Reel Stock: N/A; Last modified by: J.Jaramillo; Last modified date: 20240310; ComponentLink1Description: Digi-Key; ComponentLink1URL: https://www.digikey.com/en/products/detail/stackpole-electronics-inc/RMCF0603FT10K2/1761125
footprint 0603 (1608 Metric / 20190222 / N-A.Potosi)
pins: 1, 2

## Res_10k_0402_1/16W
designator R?, comment value 10k  (hidden comment: 10k 1/16W)
RES SMD 10K OHM 1% 1/16W 0402; Manufacturer: Yageo; Manufacturer Part Number: RC0402FR-0710KL; Supplier 1: Digi-Key; Supplier Part Number 1: 311-10.0KLRCT-ND; Reel Stock: N/A; Last modified by: J.Jaramillo; Last modified date: 20240310; ComponentLink1Description: Digi-Key; ComponentLink1URL: https://www.digikey.com/en/products/detail/yageo/RC0402FR-0710KL/726523?s=N4IgTCBcDaIEoGEAMAWJYBicC0SDsAjEgNIAyIAugL5A
footprint 0402 (1005 Metric / 20190222 / N-A.Potosi)
footprint 0402_RF (1005 Metric / 20190222 / N-A.Potosi)
footprint 0402_RF2 (1005 Metric / 20190222 / N-A.Potosi)
pins: 1, 2

## Res_10k_0603_1/10W
designator R?, comment value 10k  (hidden comment: 10k 1/10W)
RES SMD 10K OHM 1% 1/10W 0603; Manufacturer: Samsung Electro-Mechanics; Manufacturer Part Number: RC1608F103CS; ComponentLink1URL: https://www.digikey.com/products/en?keywords=1276-3485-1-ND; Supplier 1: Digi-Key; Supplier Part Number 1: 1276-3485-1-ND; Reel Stock: N/A; Last modified by: J.Jaramillo; Last modified date: 20240310; ComponentLink1Description: Digi-key
footprint 0603
pins: 1, 2

## Res_10k_0805_1/8W
designator R?, comment value 10k  (hidden comment: 10k 1/8W)
RES SMD 10K OHM 1% 1/8W 0805; Manufacturer Part Number: 311-10.0KCRCT-ND; Manufacturer: Yageo; Reel Stock: N/A; Last modified by: J.Jaramillo; Last modified date: 20240310; ComponentLink1Description: Digi-Key; ComponentLink1URL: https://www.digikey.com/product-detail/en/yageo/RC0805FR-0710KL/311-10.0KCRCT-ND/730482; Supplier 1: Digi-Key; Supplier Part Number 1: RC0805FR-0710KL
footprint 0805 (2012 Metric / 20190221 / C-A.Serna.A)
footprint 0805_M (2012 Metric / 20200129/ V-A.Patino)
pins: 1, 2

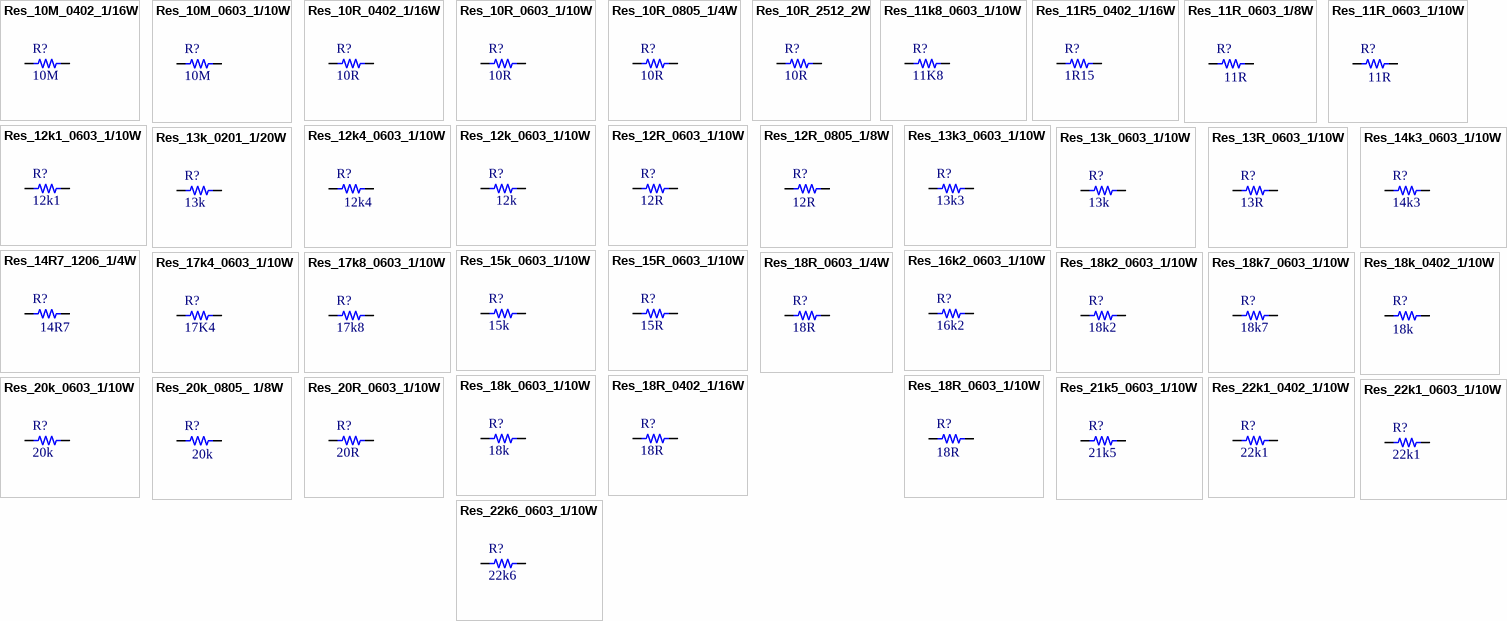
[diagram p4: symbols Res_10M_0402_1/16W to Res_22k6_0603_1/10W]

## Res_10M_0402_1/16W
designator R?, comment value 10M  (hidden comment: 10M 1/16W)
RES SMD 10M OHM 1% 1/16W 0402; Manufacturer: Yageo; Manufacturer Part Number: AC0402FR-0710ML; Supplier 1: Digi-Key; Supplier Part Number 1: YAG3437CT-ND; Reel Stock: N/A; Last modified by: J.Jaramillo; Last modified date: 20240310; ComponentLink1Description: Digi-Key; ComponentLink1URL: https://www.digikey.com/product-detail/en/yageo/AC0402FR-0710ML/YAG3437CT-ND/6006286
footprint 0402 (1005 Metric / 20190222 / N-A.Potosi)
footprint 0402_RF (1005 Metric / 20190222 / N-A.Potosi)
footprint 0402_RF2 (1005 Metric / 20190222 / N-A.Potosi)
pins: 1, 2

## Res_10M_0603_1/10W
designator R?, comment value 10M  (hidden comment: 10M 1/10W)
RES SMD 10M OHM 1% 1/10W 0603; Manufacturer: Yageo; Manufacturer Part Number: RC0603FR-0710ML; Reel Stock: N/A; Last modified by: J.Jaramillo; Last modified date: 20240310; ComponentLink1Description: Digi-Key; ComponentLink1URL: https://www.digikey.com/en/products/detail/yageo/RC0603FR-0710ML/726881?s=N4IgTCBcDaIEoGEAMA2JBmAYnAtEg7AIxICyAMiALoC%2BQA; Supplier 1: Digi-Key; Supplier Part Number 1: 311-10.0MHRCT-ND
footprint 0603
pins: 1, 2

## Res_10R_0402_1/16W
designator R?, comment value 10R  (hidden comment: 10R 1/16W)
RES 10 OHM 1% 1/16W 0402; Manufacturer: YAGEO; Manufacturer Part Number: RC0402FR-0710RL; Supplier 1: Digi-Key; Supplier Part Number 1: 311-10.0LRCT-ND; Reel Stock: N/A; Last modified by: J.Jaramillo; Last modified date: 20240310; ComponentLink1Description: Digi-Key; ComponentLink1URL: https://www.digikey.com/en/products/detail/yageo/RC0402FR-0710RL/726524
footprint 0402 (1005 Metric / 20190222 / N-A.Potosi)
footprint 0402_RF (1005 Metric / 20190222 / N-A.Potosi)
footprint 0402_RF2 (1005 Metric / 20190222 / N-A.Potosi)
pins: 1, 2

## Res_10R_0603_1/10W
designator R?, comment value 10R  (hidden comment: 10R 1/10W)
RES SMD 10 OHM 1% 1/10W 0603; Manufacturer Part Number: RC0603FR-0710RL; Manufacturer: Yageo; ComponentLink1URL: https://www.digikey.com/en/products/detail/yageo/RC0603FR-0710RL/726879?s=N4IgTCBcDaIMwEYEFoEAYB0aASAlAwgCrIByAIiALoC%2BQA; Reel Stock: N/A; Last modified by: J.Jaramillo; Last modified date: 20240310; ComponentLink1Description: Digi-key; Supplier 1: Digi-Key; Supplier Part Number 1: 311-10.0HRCT-ND
footprint 0603
pins: 1, 2

## Res_10R_0805_1/4W
designator R?, comment value 10R  (hidden comment: 10R 1/4W)
RES 10 OHM 1% 1/4W 0805; Manufacturer: Stackpole Electronics Inc; Manufacturer Part Number: RNCP0805FTD10R0; Supplier 1: Digi-Key; Supplier Part Number 1: RNCP0805FTD10R0CT-ND; Reel Stock: N/A; Last modified by: J.Jaramillo; Last modified date: 20240310; ComponentLink1Description: Digi-Key; ComponentLink1URL: https://www.digikey.com/product-detail/en/stackpole-electronics-inc/RNCP0805FTD10R0/RNCP0805FTD10R0CT-ND/2240536
footprint 0805 (2012 metric/ 20190327 / V-A.Patino)
footprint 0805_M (2012 Metric / 20200129/ V-A.Patino)
pins: 1, 2

## Res_10R_2512_2W
designator R?, comment value 10R  (hidden comment: 10R 2W)
RES SMD 10 OHM 2W 2512 WIDE; Manufacturer: Vishay Dale; Manufacturer Part Number: RCL122510R0FKEG; Supplier 1: Digi-Key; Supplier Part Number 1: RCL10.0ECT-ND; Reel Stock: N/A; Last modified by: J.Jaramillo; Last modified date: 20240310; ComponentLink1Description: Digi-Key; ComponentLink1URL: https://www.digikey.com/product-detail/en/vishay-dale/RCL122510R0FKEG/RCL10-0ECT-ND/3029231
footprint 2512 (6432 metric/ 20190613/ J-P.Vargas.A)
pins: 1, 2

## Res_11k8_0603_1/10W
designator R?, comment value 11K8  (hidden comment: 1/10W)
RES SMD 11.8K OHM 1% 1/10W 0603; Manufacturer: Vishay Dale; Manufacturer Part Number: CRCW060311K8FKEB; Reel Stock: N/A; Last modified by: J.Jaramillo; Last modified date: 20240310; ComponentLink1Description: Digi-Key; ComponentLink1URL: https://www.digikey.com/en/products/detail/vishay-dale/CRCW060311K8FKEB/5070763; Supplier 1: Digi-Key; Supplier Part Number 1: 541-CRCW060311K8FKEBCT-ND
footprint 0603
pins: 1, 2

## Res_11R5_0402_1/16W
designator R?, comment value 1R15  (hidden comment: 11R5 1/16W)
RES SMD 11.5 OHM 1% 1/16W 0402; Manufacturer: Yageo; Manufacturer Part Number: RC0402FR-0711R5L; Supplier 1: Digi-Key; Supplier Part Number 1: YAG2960CT-ND; Reel Stock: N/A; Last modified by: J.Jaramillo; Last modified date: 20240310; ComponentLink1Description: Digi-Key; ComponentLink1URL: https://www.digikey.com/product-detail/en/yageo/RC0402FR-0711R5L/YAG2960CT-ND/5281825
footprint 0402 (1005 Metric / 20190222 / N-A.Potosi)
footprint 0402_RF (1005 Metric / 20190222 / N-A.Potosi)
footprint 0402_RF2 (1005 Metric / 20190222 / N-A.Potosi)
pins: 1, 2

## Res_11R_0603_1/8W
designator R?, comment value 11R  (hidden comment: 11R 1/8W)
RES 11 OHM 1% 1/8W 0603; Manufacturer: KOA Speer Electronics, Inc.; Manufacturer Part Number: RK73H1JTTD11R0F; Supplier 1: Digi-Key; Supplier Part Number 1: 2019-RK73H1JTTD11R0FCT-ND; Reel Stock: N/A; Last modified by: J.Jaramillo; Last modified date: 20240310; ComponentLink1Description: Digi-Key; ComponentLink1URL: https://www.digikey.com/en/products/detail/koa-speer-electronics-inc/RK73H1JTTD11R0F/9845363
footprint 0603_0.6mm (1608 Metric/20230303/J-A.Sepulveda)
footprint 0603_0.8mm (1608 Metric/20230303/J-A.Sepulveda)
footprint 0603_1.0mm (1608 Metric/20230303/J-A.Sepulveda)
footprint 0805_1.2mm (2012 metric/20230306/ J-A.Sepulveda)
footprint 0603_1.4mm (1608 Metric/20230206/J-A.Sepulveda)
pins: 1, 2

## Res_11R_0603_1/10W
designator R?, comment value 11R  (hidden comment: 11R 1/10W)
RES 11 OHM 1% 1/10W 0603; Manufacturer: YAGEO; Manufacturer Part Number: RC0603FR-0711RL; Supplier 1: Digi-Key; Supplier Part Number 1: 311-11.0HRCT-ND; Reel Stock: N/A; Last modified by: J.Jaramillo; Last modified date: 20240310; ComponentLink1Description: Digi-Key; ComponentLink1URL: https://www.digikey.com/en/products/detail/yageo/RC0603FR-0711RL/726896
footprint 0603_0.6mm (1608 Metric/20230303/J-A.Sepulveda)
footprint 0603_0.8mm (1608 Metric/20230303/J-A.Sepulveda)
footprint 0603_1.0mm (1608 Metric/20230303/J-A.Sepulveda)
footprint 0603_1.2mm (1608 Metric/20230303/J-A.Sepulveda)
footprint 0603_1.4mm (1608 Metric/20230206/J-A.Sepulveda)
pins: 1, 2

## Res_12k1_0603_1/10W
designator R?, comment value 12k1  (hidden comment: 12.1k 1/10W)
RES 12k1 OHM 1% 1/10W 0603; Manufacturer: Stackpole Electronics Inc.; Manufacturer Part Number: RMCF0603FT12K1; Supplier 1: Digi-Key; Supplier Part Number 1: RMCF0603FT12K1CT-ND; Reel Stock: N/A; Last modified by: J.Jaramillo; Last modified date: 20240310; ComponentLink1Description: Digi-Key; ComponentLink1URL: https://www.digikey.com/product-detail/en/stackpole-electronics-inc/RMCF0603FT12K1/RMCF0603FT12K1CT-ND/1943063
footprint 0603
pins: 1, 2

## Res_12k4_0603_1/10W
designator R?, comment value 12k4  (hidden comment: 12k4 1/10W)
RES 12.4K OHM 1% 1/10W 0603; Manufacturer: YAGEO; Manufacturer Part Number: RC0603FR-0712K4L; Supplier 1: Digi-Key; Supplier Part Number 1: 311-12.4KHRCT-ND; Reel Stock: N/A; Last modified by: J.Jaramillo; Last modified date: 20240310; ComponentLink1Description: Digi-Key; ComponentLink1URL: https://www.digikey.com/en/products/detail/yageo/RC0603FR-0712K4L/726917
footprint 0603_0.6mm (1608 Metric/20230303/J-A.Sepulveda)
pins: 1, 2

## Res_12k_0603_1/10W
designator R?, comment value 12k  (hidden comment: 12k 1/10W)
RES SMD 12K OHM 1% 1/10W 0603; Manufacturer: Vishay Dale; Manufacturer Part Number: CRCW060312K0FKEAC; Supplier 1: Digi-Key; Supplier Part Number 1: 541-4046-1-ND; Reel Stock: N/A; Last modified by: J.Jaramillo; Last modified date: 20240310; ComponentLink1Description: Digi-Key; ComponentLink1URL: https://www.digikey.com/product-detail/en/vishay-dale/CRCW060312K0FKEAC/541-4046-1-ND/7928729
footprint 0603
pins: 1, 2

## Res_12R_0603_1/10W
designator R?, comment value 12R  (hidden comment: 12R 1/10W)
RES SMD 12 OHM 1% 1/10W 0603; Manufacturer Part Number: RC0603FR-0712RL; Manufacturer: Yageo; ComponentLink1URL: https://www.digikey.com/en/products/detail/yageo/RC0603FR-0712RL/726912?s=N4IgTCBcDaIEoGEAMA2JBmAYnAtEg7AIxhwAyIAugL5A; Reel Stock: N/A; Last modified by: J.Jaramillo; Last modified date: 20240310; ComponentLink1Description: Digi-key; Supplier 1: Digi-Key; Supplier Part Number 1: 311-12.0HRCT-ND
footprint 0603
pins: 1, 2

## Res_12R_0805_1/8W
designator R?, comment value 12R  (hidden comment: 12R 1/8W)
RES SMD 12 OHM 1% 1/8W 0805; Manufacturer: Yageo; Manufacturer Part Number: RC0805FR-0712RL; Supplier 1: Digi-Key; Supplier Part Number 1: 311-12.0CRCT-ND; Reel Stock: N/A; Last modified by: J.Jaramillo; Last modified date: 20240310; ComponentLink1Description: Digi-Key; ComponentLink1URL: https://www.digikey.com/product-detail/en/yageo/RC0805FR-0712RL/311-12-0CRCT-ND/730514
footprint 0805 (2012 metric/ 20190327 / V-A.Patino)
footprint 0805_M (2012 Metric / 20200129/ V-A.Patino)
pins: 1, 2

## Res_13k3_0603_1/10W
designator R?, comment value 13k3  (hidden comment: 13k3 1/10W)
RES SMD 13.3K OHM 1% 1/10W 0603; Manufacturer: Yageo; Manufacturer Part Number: RC0603FR-0713K3L; Supplier 1: Digi-Key; Supplier Part Number 1: 311-13.3KHRCT-ND; Reel Stock: N/A; Last modified by: J.Jaramillo; Last modified date: 20240310; ComponentLink1Description: Digi-Key; ComponentLink1URL: https://www.digikey.com/en/products/detail/yageo/RC0603FR-0713K3L/726931
footprint 0603 (1608 Metric / 20190222 / N-A.Potosi)
pins: 1, 2